# EAGLE library part PCAL9538APWJ (library IC, i2c gpio expander - PCAL9538APWJ)
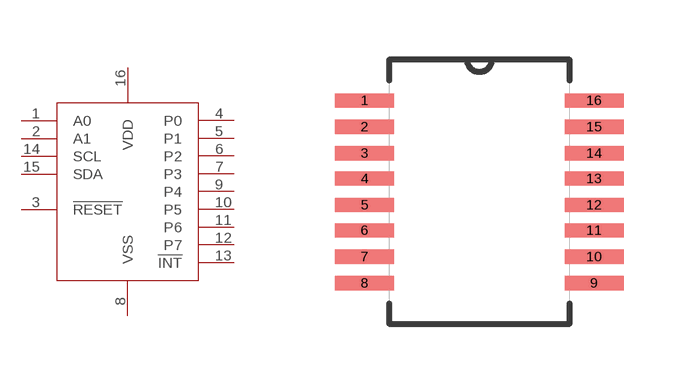
[diagram p0: symbol with the pads of TSSOP-16; footprint TSSOP-16]

Designator prefix -

## PCAL9538APWJ  [TSSOP-16]
1  A0
2  A1
3  !RESET
4  P0
5  P1
6  P2
7  P3
8  VSS
9  P4
10  P5
11  P6
12  P7
13  !INT
14  SCL
15  SDA
16  VDD

## Footprint TSSOP-16 (pad centres in mm)
smd 1.473 x 0.356: 1 -2.87,2.286; 2 -2.87,1.626; 3 -2.87,0.965; 4 -2.87,0.33; 5 -2.87,-0.33; 6 -2.87,-0.965; 7 -2.87,-1.626; 8 -2.87,-2.286; 9 2.87,-2.286; 10 2.87,-1.626; 11 2.87,-0.965; 12 2.87,-0.33; 13 2.87,0.33; 14 2.87,0.965; 15 2.87,1.626; 16 2.87,2.286